# EAGLE library part TCA9555 (library TI)
TCA9555 - 16-bit Low-Voltage I2C and SMBus I/O Expander with Interrupt Output and Configuration Registers Datasheet: http://www.ti.com/lit/ds/symlink/tca9555.pdf
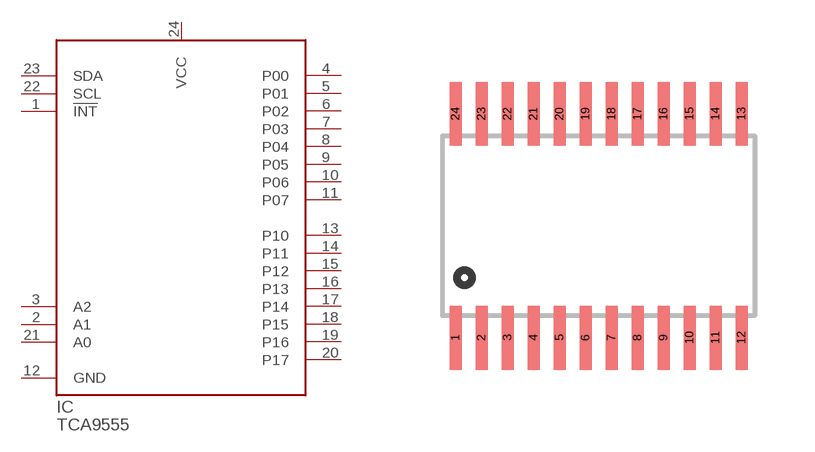
[diagram p21: symbol with the pads of PW_(R-PDSO-G24)_(TSSOP-24); footprint PW_(R-PDSO-G24)_(TSSOP-24)]

Designator prefix IC

## TCA9555PWR (PARTNO: TCA9555PWR)  [PW_(R-PDSO-G24)_(TSSOP-24)]
1  !INT  out
2  A1
3  A2
4  P00
5  P01
6  P02
7  P03
8  P04
9  P05
10  P06
11  P07
12  GND  pwr
13  P10
14  P11
15  P12
16  P13
17  P14
18  P15
19  P16
20  P17
21  A0
22  SCL
23  SDA
24  VCC  pwr

## Footprint PW_(R-PDSO-G24)_(TSSOP-24) (pad centres in mm)
PW (R-PDSO-G24) - TSSOP-24 Here's a package drawing: http://www.ti.com/lit/ml/mpds363/mpds363.pdf and one with pad outlines: http://www.ti.com/lit/ds/symlink/tca9555.pdf
smd 0.3 x 1.6: 1 -3.575,-2.8; 2 -2.925,-2.8; 3 -2.275,-2.8; 4 -1.625,-2.8; 5 -0.975,-2.8; 6 -0.325,-2.8; 7 0.325,-2.8; 8 0.975,-2.8; 9 1.625,-2.8; 10 2.275,-2.8; 11 2.925,-2.8; 12 3.575,-2.8; 13 3.575,2.8; 14 2.925,2.8; 15 2.275,2.8; 16 1.625,2.8; 17 0.975,2.8; 18 0.325,2.8; 19 -0.325,2.8; 20 -0.975,2.8; 21 -1.625,2.8; 22 -2.275,2.8; 23 -2.925,2.8; 24 -3.575,2.8